# Altium schematic symbol library 2019-11-16_20-36-36.SchLib: 2 symbols
Pins are listed as number, name and electrical type; pins without a type are passive.

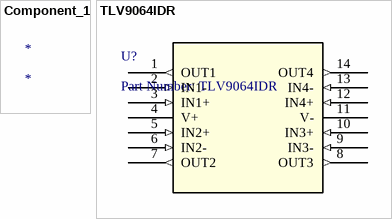
[diagram p0: symbols Component_1 to TLV9064IDR]

## Component_1
designator *

## TLV9064IDR
designator U?, comment Part Number: TLV9064IDR
No Description Available; Vendor: Texas Instruments; Manufacturer_Part_Number: TLV9064IDR; Copyright: Copyright (C) 2016 Accelerated Designs. All rights reserved; RefDes: RefDes; Type: DEV; Value: Value
footprint D14
pins: 1 OUT1 (out), 2 IN1- (in), 3 IN1+ (in), 4 V+ (power), 5 IN2+ (in), 6 IN2- (in), 7 OUT2 (out), 8 OUT3 (out), 9 IN3- (in), 10 IN3+ (in), 11 V- (power), 12 IN4+ (in), 13 IN4- (in), 14 OUT4 (out)